# EAGLE library part AD8608ARZ (library AD8608ARZ)
Precision, Low Noise, CMOS, Rail-to-Rail, Input/Output Operational Amplifiers Check availability <https://pricing.snapeda.com/parts/AD8608ARZ/Analog%20Devices/view-part?ref=eda>
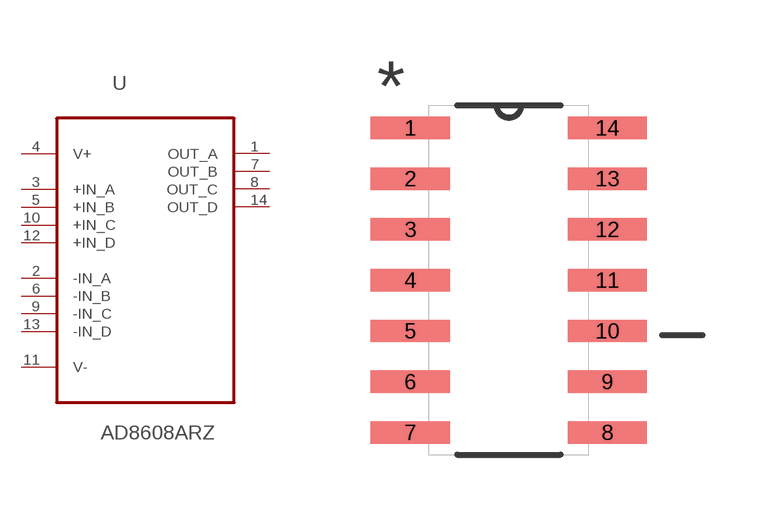
[diagram p0: symbol with the pads of SOIC127P600X175-14N; footprint SOIC127P600X175-14N]

Designator prefix U

## AD8608ARZ (Availability: In Stock; Description: Low Noise, CMOS, Rail-to-Rail, Input/Output Precision Quad Op Amp; MF: Analog Devices; MP: AD8608ARZ; Package: SOIC-14 Analog Devices; Price: None; Purchase-URL: https://pricing.snapeda.com/search?q=AD8608ARZ&ref=eda)  [SOIC127P600X175-14N]
1  OUT_A  out
2  -IN_A  in
3  +IN_A  in
4  V+  pwr
5  +IN_B  in
6  -IN_B  in
7  OUT_B  out
8  OUT_C  out
9  -IN_C  in
10  +IN_C  in
11  V-  pwr
12  +IN_D  in
13  -IN_D  in
14  OUT_D  out

## Footprint SOIC127P600X175-14N (pad centres in mm)
smd 1.981 x 0.559: 1 -2.464,3.81; 2 -2.464,2.54; 3 -2.464,1.27; 4 -2.464,0; 5 -2.464,-1.27; 6 -2.464,-2.54; 7 -2.464,-3.81; 8 2.464,-3.81; 9 2.464,-2.54; 10 2.464,-1.27; 11 2.464,0; 12 2.464,1.27; 13 2.464,2.54; 14 2.464,3.81